# Altium footprint library RCDQLY.PCBLIB: 122 footprints (part 8 of 8)
Each footprint in its own frame and in the unit in brackets; x right, y up, seen from the top. Pads: shape width x height; smd on the part's side, far side on the other; paste and mask are expansions set on the pad; w line width, h text height; cw(c..) or ccw(c..) is an arc to the next point about the centre after c.
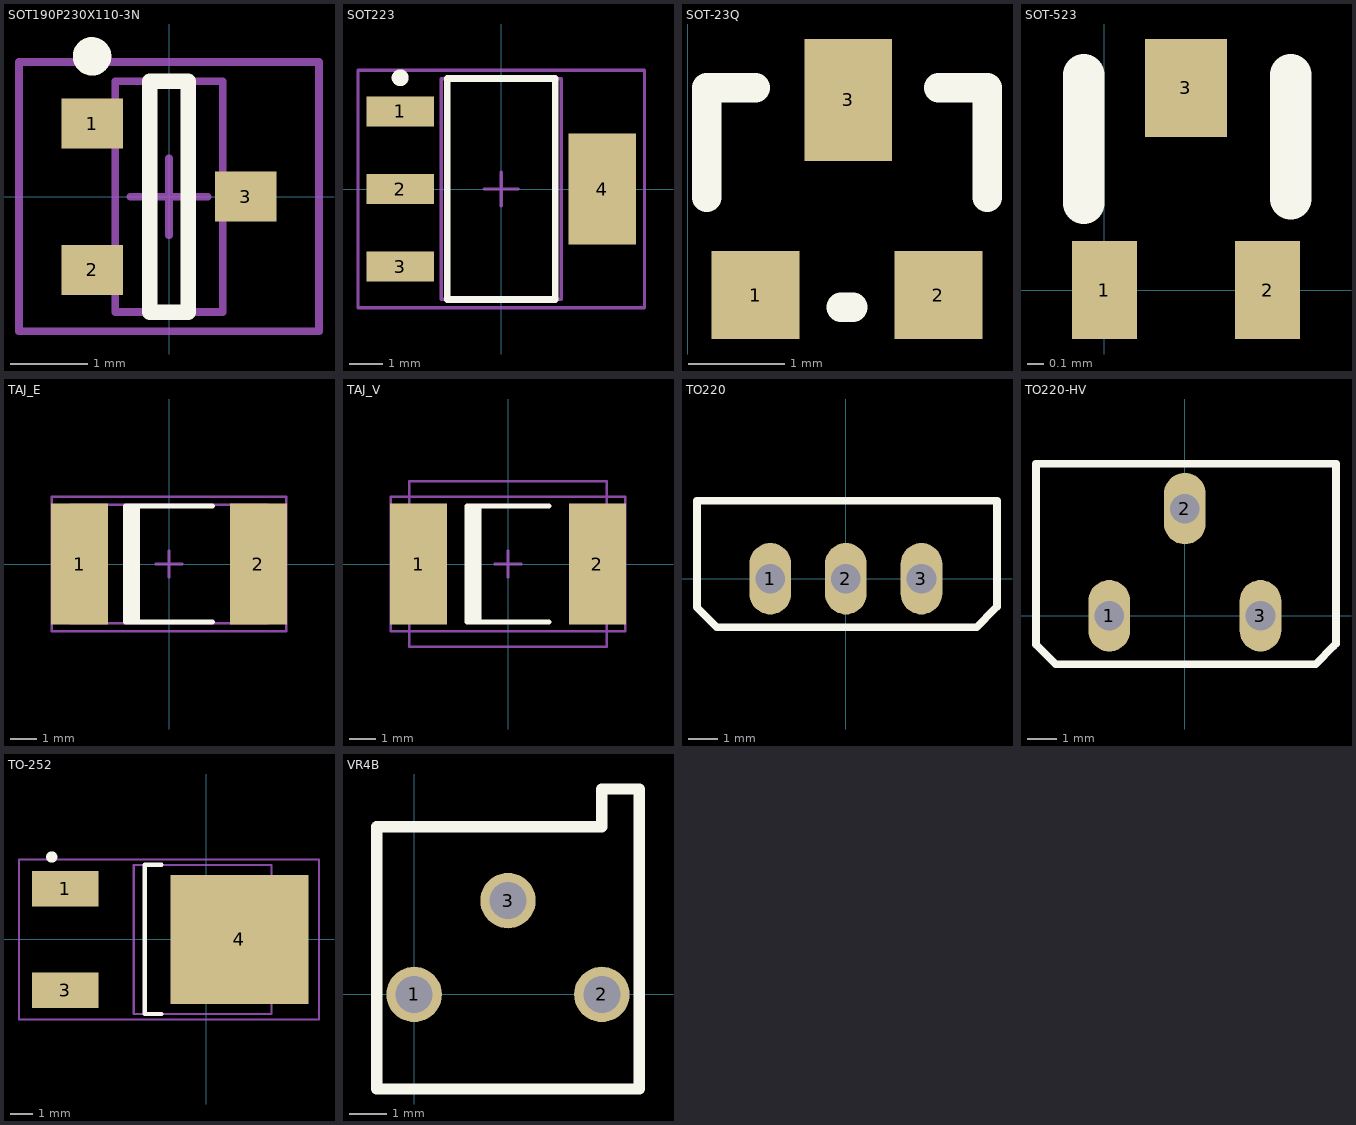
[diagram p7: the footprints below, top view; thin cyan lines are the x and y axes]

## SOT190P230X110-3N [mm] "SOT223, 3-Leads, Body 3.0x2.5mm (max), Pitch 1.90mm, IPC Medium Density"
height 1.1
pads (3):
  rect 0.8x0.65 smd: 1(-1,0.95) 2(-1,-0.95) 3(1,0)
TopOverlay:
  circle w0.25: c-1,1.825 r0.125
  lines w0.2: -0.25,-1.5 -0.25,1.5 0.25,1.5 0.25,-1.5 -0.25,-1.5
Mechanical13:
  lines w0.1: -0.7,-1.5 -0.7,1.5 0.7,1.5 0.7,-1.5 -0.7,-1.5
Mechanical15:
  lines w0.1: -0.5,0 0.5,0 ; 0,-0.5 0,0.5 ; -1.95,-1.75 -1.95,1.75 1.95,1.75 1.95,-1.75 -1.95,-1.75
3D body: height 1.1, standoff 0.09, extent -0.7,-1.5 0.7,1.5

## SOT223 [mm] "SOT223, 4-Leads, Body 6.6x7.1mm (max), Pitch 2.30mm, IPC Medium Density"
height 1.65
pads (4):
  rect 2x0.9 smd: 1(-3,2.3) 2(-3,0) 3(-3,-2.3)
  rect 2x3.3 smd: 4(3,0)
TopOverlay:
  circle w0.25: c-3,3.3 r0.125
  lines w0.2: -1.6,-3.275 -1.6,3.275 1.6,3.275 1.6,-3.275 -1.6,-3.275
Mechanical13:
  lines w0.1: -1.775,-3.275 -1.775,3.275 1.775,3.275 1.775,-3.275 -1.775,-3.275
Mechanical15:
  lines w0.1: -0.5,0 0.5,0 ; 0,-0.5 0,0.5 ; -4.25,-3.525 -4.25,3.525 4.25,3.525 4.25,-3.525 -4.25,-3.525
3D body: height 1.65, standoff 0.15, extent -1.775,-3.275 1.775,3.275

## SOT-23Q [mil]
pads (3):
  rect 36x36 smd: 1(27.75,-120.28) 2(102.75,-120.28)
  rect 36x50 smd: 3(65.75,-40.28)
TopOverlay:
  lines w12: 7.75,-80.28 7.75,-35.28 27.75,-35.28 ; 62.76,-125.28 67.75,-125.28 ; 102.75,-35.28 122.75,-35.28 122.75,-80.28

## SOT-523 [mm]
pads (3):
  rect 0.4x0.6 smd: 1(0,0) 2(1,0)
  rect 0.5x0.6 smd: 3(0.5,1.24)
TopOverlay:
  lines w0.254: -0.127,0.533 -0.127,1.321 ; 1.143,0.559 1.143,1.321

## TAJ_E [mm] "Chip Capacitor, 2-Leads, Body 7.3x4.3mm, IPC Medium Density"
height 4.3
pads (2):
  rect 2.15x4.6 smd: 1(-3.4,0) 2(3.4,0)
TopOverlay:
  rectangle: -1.65,-2.2 -1.1,2.2
  lines w0.2: 1.65,-2.2 -1.65,-2.2 -1.65,2.2 1.65,2.2
Mechanical13:
  lines w0.1: -3.75,-2.25 3.75,-2.25 3.75,2.25 -3.75,2.25 -3.75,-2.25
Mechanical15:
  lines w0.1: -0.5,0 0.5,0 ; 0,-0.5 0,0.5 ; -4.45,-2.55 4.45,-2.55 4.45,2.55 -4.45,2.55 -4.45,-2.55
3D body: height 4.3, standoff 0, extent -3.75,-2.25 3.75,2.25

## TAJ_V [mm] "Chip Capacitor, 2-Leads, Body 7.3x6.2mm, IPC Medium Density"
height 3.75
pads (2):
  rect 2.15x4.6 smd: 1(-3.4,0) 2(3.4,0)
TopOverlay:
  rectangle: -1.55,-2.2 -1,2.2
  lines w0.2: 1.55,-2.2 -1.55,-2.2 -1.55,2.2 1.55,2.2
Mechanical13:
  lines w0.1: -3.75,-3.15 -3.75,3.15 3.75,3.15 3.75,-3.15 -3.75,-3.15
Mechanical15:
  lines w0.1: -0.5,0 0.5,0 ; 0,-0.5 0,0.5 ; -4.45,-2.55 -4.45,2.55 4.45,2.55 4.45,-2.55 -4.45,-2.55
3D body: height 3.75, standoff 0, extent -3.75,-3.15 3.75,3.15

## TO220 [mm]
pads (3):
  oval 1.4x2.4 hole 1: 1(-2.54,0) 2(0,0) 3(2.54,0)
TopOverlay:
  lines w0.254: -5.004,-0.965 -5.004,2.616 5.08,2.616 5.08,-0.94 5.004,-1.016 4.394,-1.626 -4.343,-1.626 -4.978,-0.991 -5.004,-0.965

## TO220-HV [mm]
pads (3):
  oval 1.4x2.4 hole 1: 1(-2.54,0) 2(0,3.6) 3(2.54,0)
TopOverlay:
  lines w0.254: -5.004,-0.965 -4.978,-0.991 -4.343,-1.626 4.394,-1.626 5.004,-1.016 5.08,-0.94 5.08,5.105 -5.004,5.105 -5.004,-0.965

## TO-252 [mm] "D-PAK, 3-Pads, Body 6.2x6.7mm (max), IPC Medium Density"
height 2.3
pads (3):
  rect 3x1.6 smd: 1(-6.326,2.29) 3(-6.326,-2.29)
  rect 6.2x5.8 smd: 4(1.5,0)
TopOverlay:
  circle w0.25: c-6.934,3.708 r0.125
  lines w0.2: -2,-3.35 -2.75,-3.35 -2.75,3.35 -2,3.35
Mechanical13:
  lines w0.1: -3.25,-3.35 2.95,-3.35 2.95,3.35 -3.25,3.35 -3.25,-3.35
Mechanical15:
  lines w0.1: -0.5,0 0.5,0 ; 0,-0.5 0,0.5 ; -8.407,-3.6 5.08,-3.6 5.08,3.6 -8.407,3.6 -8.407,-3.6
3D body: height 2.3, standoff 0.5, extent -3.25,-3.35 2.95,3.35

## VR4B [mm]
pads (3):
  round 1.5 hole 1: 1(0,0) 2(5.08,0) 3(2.54,2.54)
TopOverlay:
  lines w0.305: -1.01,-2.56 -1.01,4.54 5.08,4.54 5.08,5.562 6.09,5.562 6.09,-2.56 -1.01,-2.56